# Altium schematic symbol library SN6501.SCHLIB: 2 symbols
Pins are listed as number, name and electrical type; pins without a type are passive.

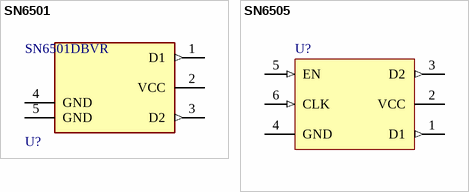
[diagram p0: symbols SN6501 to SN6505]

## SN6501
designator U?, comment SN6501DBVR
IC REG CONV PWR SUPPLIES SOT23-5
pins: 1 D1 (out), 2 VCC (power), 3 D2 (out), 4 GND (power), 5 GND (power)

## SN6505
designator U?
pins: 1 D1 (out), 2 VCC (power), 3 D2 (out), 4 GND (power), 5 EN (in), 6 CLK (in)